# EAGLE library part QUAD-2-INPUT-OR-GATES (library logic)
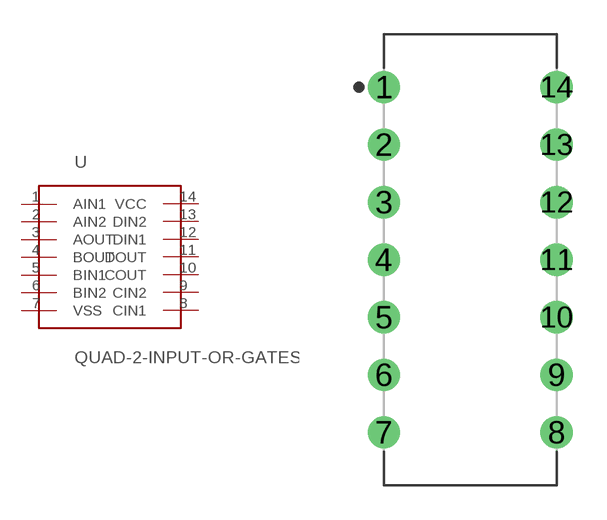
[diagram p1: symbol with the pads of DIP762W36P254L1981H508Q14B; footprint DIP762W36P254L1981H508Q14B]

Designator prefix -

## QUAD-2-INPUT-OR-GATESTI-R-PDIPT14  [DIP762W36P254L1981H508Q14B]
1  AIN1  in
2  AIN2  in
3  AOUT  out
4  BOUT  out
5  BIN1  in
6  BIN2  in
7  VSS  pwr
8  CIN1  in
9  CIN2  in
10  COUT  out
11  DOUT  out
12  DIN1  in
13  DIN2  in
14  VCC

## Footprint DIP762W36P254L1981H508Q14B (pad centres in mm)
14-DIP, 2.54 mm (0.10 in) pitch, 7.62 mm (0.30 in) span, 19.82 X 6.92 X 5.08 mm body 14-pin DIP package with 2.54 mm (0.10 in) pitch, 7.62 mm (0.30 in) span with body size 19.82 X 6.92 X 5.08 mm
drill 0.8 pad 1.422: 1 -3.81,7.62; 2 -3.81,5.08; 3 -3.81,2.54; 4 -3.81,0; 5 -3.81,-2.54; 6 -3.81,-5.08; 7 -3.81,-7.62; 8 3.81,-7.62; 9 3.81,-5.08; 10 3.81,-2.54; 11 3.81,0; 12 3.81,2.54; 13 3.81,5.08; 14 3.81,7.62